# Altium footprint library Diodes.PcbLib: 38 footprints (part 2 of 3)
Each footprint in its own frame and in the unit in brackets; x right, y up, seen from the top. Pads: shape width x height; smd on the part's side, far side on the other; paste and mask are expansions set on the pad; w line width, h text height; cw(c..) or ccw(c..) is an arc to the next point about the centre after c.
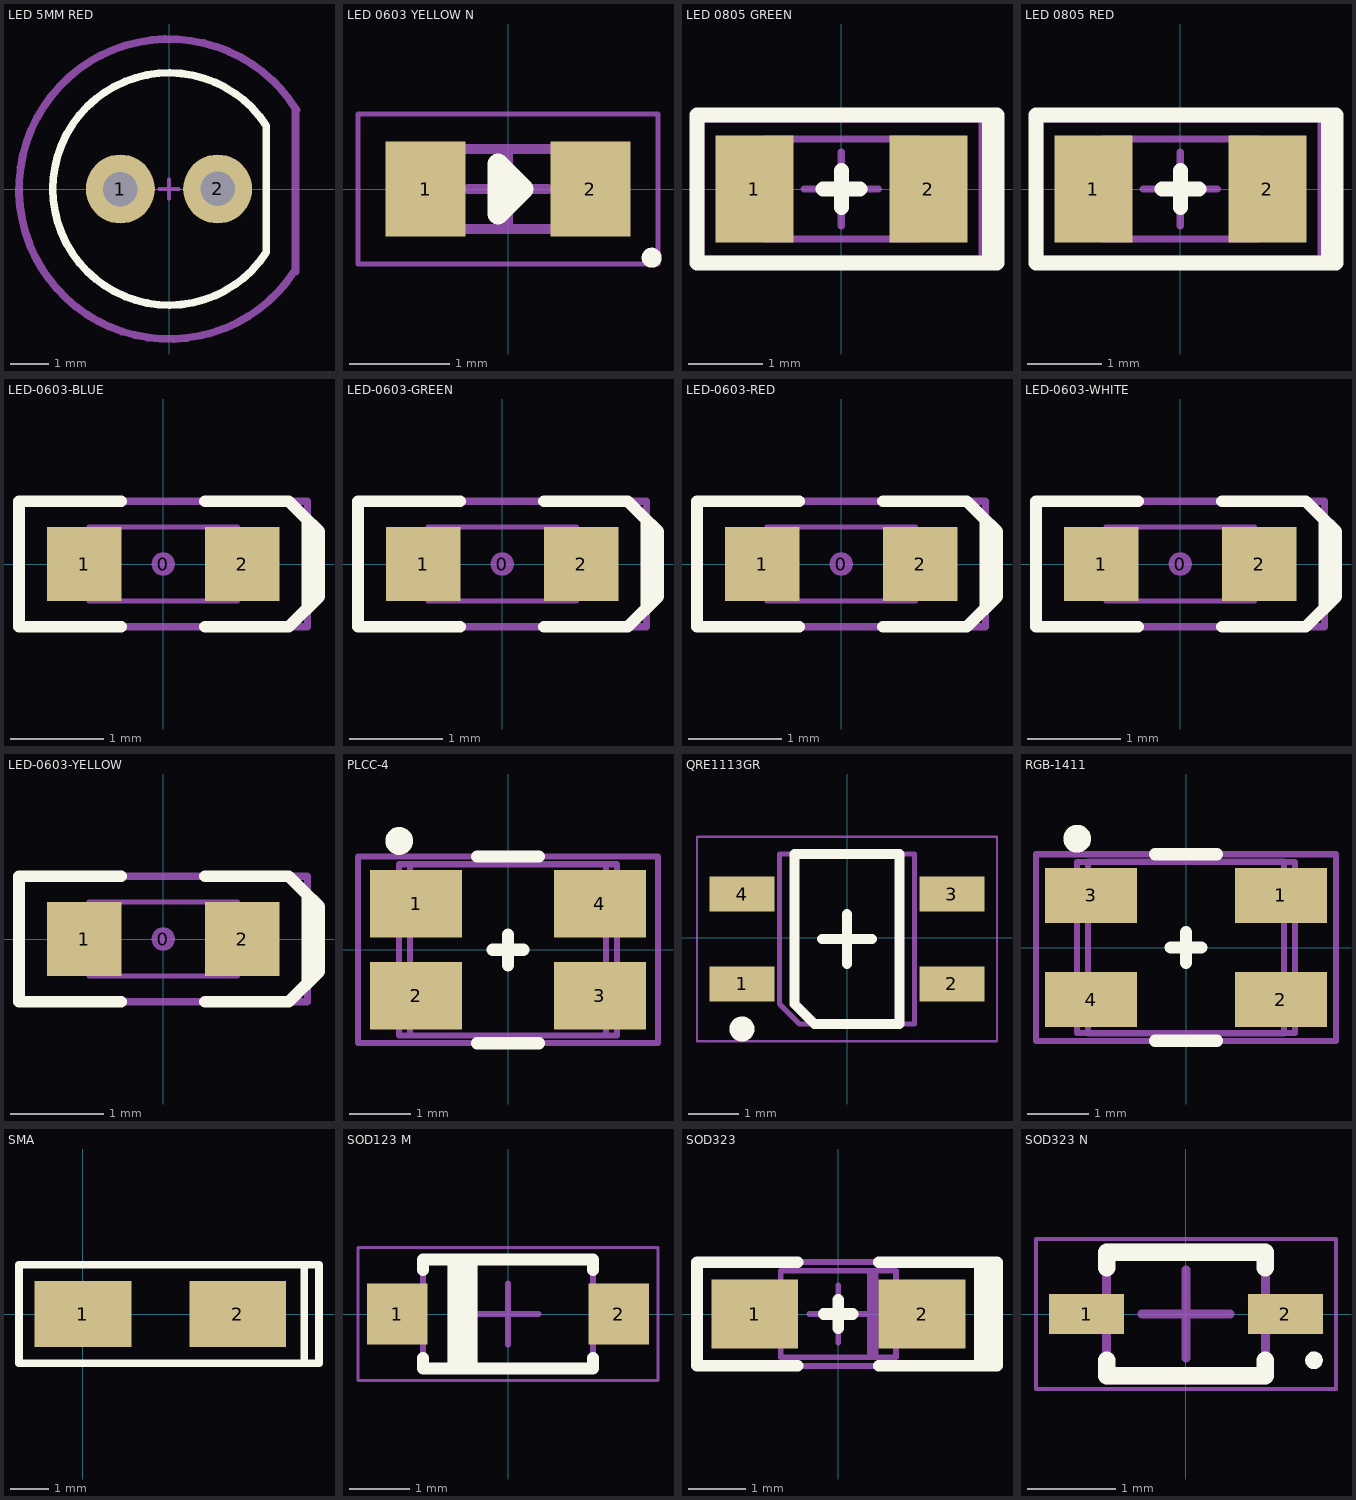
[diagram p1: the footprints below, top view; thin cyan lines are the x and y axes]

## LED 5MM RED [mm]
pads (2):
  round 1.8 hole 0.9: 1(-1.27,0) 2(1.27,0)
Top Overlay:
  lines w0.2: 2.54,-1.651 cw(c0,0) 2.54,1.651 2.54,-1.651
Mechanical 15:
  lines w0.1: -0.254,0 0.254,0 ; 0,-0.254 0,0.254
  lines w0.2: 3.275,-2.141 cw(c0,0) 3.333,2.051 ; 3.302,-2.159 3.302,2.032
Mechanical 29:
  text "K" at 0.635,-1.524 h0.5
  text "A" at -1.143,-1.524 h0.5
  text ".Designator" at -2.159,2.794 h0.5
3D body "ALSRobot-LED Red 5mm.STEP": height 9.31, standoff -5.49, extent -2.98,-3.01 2.44,3.01

## LED 0603 YELLOW N [mm] "Chip Diode, 2-Leads, Body 1,60x0,80mm, IPC Medium Density"
height 0.6
pads (2):
  rect 0.8x0.95 smd: 1(-0.825,0) 2(0.825,0)
Top Overlay:
  circle w0.1: c1.437,-0.687 r0.05
  lines w0.21: -0.1,-0.25 -0.1,0.25 0.15,0 -0.1,-0.25
Mechanical 13:
  lines w0.1: -0.8,-0.4 -0.8,0.4 0.8,0.4 0.8,-0.4 -0.8,-0.4
Mechanical 15:
  lines w0.05: -1.5,-0.75 -1.5,0.75 1.5,0.75 1.5,-0.75 -1.5,-0.75
  lines w0.1: -0.4,0 0.4,0 ; 0,-0.4 0,0.4
Mechanical 29:
  text ".Designator" at 0,0 h1
3D body "LED 0603 YELLOW.STEP": height 0.82, standoff 0.02, extent -0.8,-0.4 0.8,0.4

## LED 0805 GREEN [mm] "LED 0805 GREEN"
height 1
pads (2):
  rect 1.05x1.45 smd: 1(-1.175,0) 2(1.175,0)
Top Overlay:
  rectangle: 1.9,-1 2.1,1
  lines w0.2: -0.25,0 0.25,0 ; 0,-0.25 0,0.25 ; -1.95,-1 -1.95,1 2.1,1 2.1,-1 -1.95,-1
Mechanical 13:
  lines w0.1: -1.05,-0.675 1.05,-0.675 1.05,0.675 -1.05,0.675 -1.05,-0.675
Mechanical 15:
  lines w0.1: -0.5,0 0.5,0 ; 0,-0.5 0,0.5 ; -1.9,-0.95 1.9,-0.95 1.9,0.95 -1.9,0.95 -1.9,-0.95
Mechanical 29:
  text ".Designator" at 0,0 h1
3D body "LED0805_GREEN.STEP": height 0.9, standoff -0.01, extent -1.05,-0.675 1.05,0.675

## LED 0805 RED [mm] "LED 0805 GREEN"
height 1
pads (2):
  rect 1.05x1.45 smd: 1(-1.175,0) 2(1.175,0)
Top Overlay:
  rectangle: 1.9,-1 2.1,1
  lines w0.2: -0.25,0 0.25,0 ; 0,-0.25 0,0.25 ; -1.95,-1 -1.95,1 2.1,1 2.1,-1 -1.95,-1
Mechanical 13:
  lines w0.1: -1.05,-0.675 1.05,-0.675 1.05,0.675 -1.05,0.675 -1.05,-0.675
Mechanical 15:
  lines w0.1: -0.5,0 0.5,0 ; 0,-0.5 0,0.5 ; -1.9,-0.95 1.9,-0.95 1.9,0.95 -1.9,0.95 -1.9,-0.95
Mechanical 29:
  text ".Designator" at 0,0 h1
3D body "LED0805_RED.STEP": height 0.9, standoff -0.01, extent -1.05,-0.675 1.05,0.675

## LED-0603-BLUE [mm]
height 0.8
pads (3):
  round 0.254 on Mech15: 0(0,0)
  rect 0.8x0.8 smd: 1(-0.85,0) 2(0.85,0)
Top Overlay:
  lines w0.127: -0.45,-0.675 -1.55,-0.675 -1.55,0.675 -0.45,0.675 ; 0.45,-0.675 1.35,-0.675 1.55,-0.475 1.55,0.475 1.35,0.675 0.45,0.675 ; 1.5,0.525 1.675,0.35 1.675,-0.35 1.525,-0.5
Mechanical 13:
  lines w0.05: -0.6,-0.4 -0.6,0.399 0.6,0.4 0.6,-0.4 -0.6,-0.399 ; -0.505,-0.398 -0.505,0.398 ; -0.5,-0.4 -0.8,-0.4 -0.8,0.4 -0.5,0.4 ; 0.5,-0.4 0.8,-0.4 0.8,0.4 0.5,0.4 ; 0.505,-0.398 0.505,0.398 ; -0.599,-0.398 0.599,-0.398 0.599,0.398 -0.599,0.398 -0.599,-0.398
Mechanical 15:
  lines w0.076: -1.55,-0.675 1.55,-0.675 1.55,0.675 -1.55,0.675 -1.55,-0.675
3D body "LED 0603 APT1608 BLUE.STEP": height 0.75, standoff 0, extent -0.8,-0.4 0.8,0.4

## LED-0603-GREEN [mm]
height 0.8
pads (3):
  round 0.254 on Mech15: 0(0,0)
  rect 0.8x0.8 smd: 1(-0.85,0) 2(0.85,0)
Top Overlay:
  lines w0.127: -0.45,-0.675 -1.55,-0.675 -1.55,0.675 -0.45,0.675 ; 0.45,-0.675 1.35,-0.675 1.55,-0.475 1.55,0.475 1.35,0.675 0.45,0.675 ; 1.5,0.525 1.675,0.35 1.675,-0.35 1.525,-0.5
Mechanical 13:
  lines w0.05: -0.6,-0.4 -0.6,0.399 0.6,0.4 0.6,-0.4 -0.6,-0.399 ; -0.505,-0.398 -0.505,0.398 ; -0.5,-0.4 -0.8,-0.4 -0.8,0.4 -0.5,0.4 ; 0.5,-0.4 0.8,-0.4 0.8,0.4 0.5,0.4 ; 0.505,-0.398 0.505,0.398 ; -0.599,-0.398 0.599,-0.398 0.599,0.398 -0.599,0.398 -0.599,-0.398
Mechanical 15:
  lines w0.076: -1.55,-0.675 -1.55,0.675 1.55,0.675 1.55,-0.675 -1.55,-0.675
3D body "LED 0603 APT1608 GREEN.STEP": height 0.75, standoff 0, extent -0.8,-0.4 0.8,0.4

## LED-0603-RED [mm]
height 0.8
pads (3):
  round 0.254 on Mech15: 0(0,0)
  rect 0.8x0.8 smd: 1(-0.85,0) 2(0.85,0)
Top Overlay:
  lines w0.127: -0.45,-0.675 -1.55,-0.675 -1.55,0.675 -0.45,0.675 ; 0.45,-0.675 1.35,-0.675 1.55,-0.475 1.55,0.475 1.35,0.675 0.45,0.675 ; 1.5,0.525 1.675,0.35 1.675,-0.35 1.525,-0.5
Mechanical 13:
  lines w0.05: -0.6,-0.4 -0.6,0.399 0.6,0.4 0.6,-0.4 -0.6,-0.399 ; -0.505,-0.398 -0.505,0.398 ; -0.5,-0.4 -0.8,-0.4 -0.8,0.4 -0.5,0.4 ; 0.5,-0.4 0.8,-0.4 0.8,0.4 0.5,0.4 ; 0.505,-0.398 0.505,0.398 ; -0.599,-0.398 -0.599,0.398 0.599,0.398 0.599,-0.398 -0.599,-0.398
Mechanical 15:
  lines w0.076: -1.55,-0.675 1.55,-0.675 1.55,0.675 -1.55,0.675 -1.55,-0.675
3D body "LED 0603 APT1608 RED.STEP": height 0.75, standoff 0, extent -0.8,-0.4 0.8,0.4

## LED-0603-WHITE [mm]
height 0.8
pads (3):
  round 0.254 on Mech15: 0(0,0)
  rect 0.8x0.8 smd: 1(-0.85,0) 2(0.85,0)
Top Overlay:
  lines w0.127: -0.45,-0.675 -1.55,-0.675 -1.55,0.675 -0.45,0.675 ; 0.45,-0.675 1.35,-0.675 1.55,-0.475 1.55,0.475 1.35,0.675 0.45,0.675 ; 1.5,0.525 1.675,0.35 1.675,-0.35 1.525,-0.5
Mechanical 13:
  lines w0.05: -0.6,-0.4 -0.6,0.399 0.6,0.4 0.6,-0.4 -0.6,-0.399 ; -0.505,-0.398 -0.505,0.398 ; -0.5,-0.4 -0.8,-0.4 -0.8,0.4 -0.5,0.4 ; 0.5,-0.4 0.8,-0.4 0.8,0.4 0.5,0.4 ; 0.505,-0.398 0.505,0.398 ; -0.599,-0.398 0.599,-0.398 0.599,0.398 -0.599,0.398 -0.599,-0.398
Mechanical 15:
  lines w0.076: -1.55,-0.675 -1.55,0.675 1.55,0.675 1.55,-0.675 -1.55,-0.675
3D body "LED 0603 APT1608 WHITE.STEP": height 0.75, standoff 0, extent -0.8,-0.4 0.8,0.4

## LED-0603-YELLOW [mm]
height 0.8
pads (3):
  round 0.254 on Mech15: 0(0,0)
  rect 0.8x0.8 smd: 1(-0.85,0) 2(0.85,0)
Top Overlay:
  lines w0.127: -0.45,-0.675 -1.55,-0.675 -1.55,0.675 -0.45,0.675 ; 0.45,-0.675 1.35,-0.675 1.55,-0.475 1.55,0.475 1.35,0.675 0.45,0.675 ; 1.5,0.525 1.675,0.35 1.675,-0.35 1.525,-0.5
Mechanical 13:
  lines w0.05: -0.6,-0.4 -0.6,0.399 0.6,0.4 0.6,-0.4 -0.6,-0.399 ; -0.505,-0.398 -0.505,0.398 ; -0.5,-0.4 -0.8,-0.4 -0.8,0.4 -0.5,0.4 ; 0.5,-0.4 0.8,-0.4 0.8,0.4 0.5,0.4 ; 0.505,-0.398 0.505,0.398 ; -0.599,-0.398 0.599,-0.398 0.599,0.398 -0.599,0.398 -0.599,-0.398
Mechanical 15:
  lines w0.076: -1.55,-0.675 1.55,-0.675 1.55,0.675 -1.55,0.675 -1.55,-0.675
3D body "LED 0603 APT1608 YELLOW.STEP": height 0.75, standoff 0, extent -0.8,-0.4 0.8,0.4

## PLCC-4 [mm] "PLCC-4"
height 1.9
pads (4):
  rect 1.5x1.1 smd: 1(-1.5,0.75) 2(-1.5,-0.75) 3(1.5,-0.75) 4(1.5,0.75)
Top Overlay:
  circle w0.254: c-1.778,1.778 r0.1
  lines w0.2: -0.508,-1.524 0.508,-1.524 ; -0.508,1.524 0.508,1.524 ; -0.25,0 0.25,0 ; 0,-0.25 0,0.25
Mechanical 13:
  lines w0.1: -1.6,-1.4 -1.6,1.4 1.6,1.4 1.6,-1.4 -1.6,-1.4
Mechanical 15:
  lines w0.1: -0.254,0 0.254,0 ; 0,-0.254 0,0.254 ; -2.45,-1.524 -2.45,1.524 2.45,1.524 2.45,-1.524 0.508,-1.524 -2.45,-1.524
Mechanical 29:
  circle w0.1: c-1.27,0.762 r0.3
  lines w0.1: -1.778,-1.397 -1.778,1.397 1.778,1.397 1.778,-1.397 -1.778,-1.397
  text ".Designator" at 0,0 h1
3D body "User Library-HSMx-A2_A3-xx-xxxxx SMD LED PLCC-4.step": height 1.91, standoff 0.01, extent -1.75,-1.4 1.75,1.4

## QRE1113GR [mm]
height 1.7
pads (4):
  rect 1.3x0.7 smd: 1(-2.1,-0.925) 2(2.1,-0.925) 3(2.1,0.875) 4(-2.1,0.875)
Top Overlay:
  circle w0.25: c-2.1,-1.825 r0.125
  lines w0.2: -0.5,-0.025 0.5,-0.025 ; 0,-0.525 0,0.475 ; -1.05,-1.325 -1.05,1.675 1.05,1.675 1.05,-1.725 -0.65,-1.725 -1.05,-1.325
Mechanical 13:
  lines w0.1: -1.35,-1.325 -0.95,-1.725 1.35,-1.725 1.35,1.675 -1.35,1.675 -1.35,-1.325
Mechanical 15:
  lines w0.05: -3,-2.075 3,-2.075 3,2.025 -3,2.025 -3,-2.075
  lines w0.1: -0.5,-0.025 0.5,-0.025 ; 0,-0.525 0,0.475
Mechanical 29:
  text ".Designator" at 0,-0.025 h1
3D body "QRE1113.STEP": height 1.71, standoff -0.01, extent -2.35,-1.725 2.35,1.675

## RGB-1411 [mm] "1411"
height 1.9
pads (4):
  rect 1.5x0.9 smd: 1(1.55,0.85) 2(1.55,-0.85) 3(-1.55,0.85) 4(-1.55,-0.85)
Top Overlay:
  circle w0.254: c-1.778,1.778 r0.1
  lines w0.2: -0.508,-1.524 0.508,-1.524 ; -0.508,1.524 0.508,1.524 ; -0.25,0 0.25,0 ; 0,-0.25 0,0.25
Mechanical 13:
  lines w0.1: -1.6,-1.4 1.6,-1.4 1.6,1.4 -1.6,1.4 -1.6,-1.4
Mechanical 15:
  lines w0.1: -0.254,0 0.254,0 ; 0,-0.254 0,0.254 ; -2.45,-1.524 0.508,-1.524 2.45,-1.524 2.45,1.524 -2.45,1.524 -2.45,-1.524
Mechanical 29:
  circle w0.1: c-1.27,0.762 r0.3
  lines w0.1: -1.778,-1.397 1.778,-1.397 1.778,1.397 -1.778,1.397 -1.778,-1.397
  text ".Designator" at 0,0 h1
3D body "User Library-HSMx-A2_A3-xx-xxxxx SMD LED PLCC-4.step": height 1.91, standoff 0.01, extent -1.75,-1.4 1.75,1.4

## SMA [mm]
pads (2):
  rect 2.5x1.7 smd: 1(0,0) 2(4,0)
Top Overlay:
  lines w0.2: 5.715,-1.27 5.715,1.27 ; 5.715,-1.27 -1.651,-1.27 -1.651,1.27 5.715,1.27 ; 5.715,-1.27 6.096,-1.27 6.096,1.27 5.715,1.27
3D body "User Library-DO-214AC SMA.step": height 2.42, standoff 0.02, extent -0.568,-1.33 4.632,1.27

## SOD123 M [mm] "SODFL, 2-Leads, Body 1,60x3,75mm, IPC Low Density"
height 1.35
pads (2):
  rect 1x1 smd: 1(-1.825,0) 2(1.825,0)
Top Overlay:
  rectangle: -1,-0.9 -0.5,0.9
  lines w0.2: -1.4,-0.725 -1.4,-0.9 1.4,-0.9 1.4,-0.725 ; -1.4,0.725 -1.4,0.9 1.4,0.9 1.4,0.725
Mechanical 13:
  rectangle: -1,-0.9 -0.5,0.9
  lines w0.1: -1.4,-0.9 1.4,-0.9 1.4,0.9 -1.4,0.9 -1.4,-0.9
Mechanical 15:
  lines w0.05: -2.475,-1.1 2.475,-1.1 2.475,1.1 -2.475,1.1 -2.475,-1.1
  lines w0.1: -0.5,0 0.5,0 ; 0,-0.5 0,0.5
Mechanical 29:
  text ".Designator" at 0,0 h2
3D body "CircuitWorks-SOD123.step": height 1.27, standoff 0, extent -1.85,-0.8 1.85,0.8

## SOD323 [mm] "SOD323"
height 1
pads (2):
  rect 1.5x1.2 smd: 1(-1.45,0) 2(1.45,0)
Top Overlay:
  rectangle: 2.45,-0.9 2.75,0.9
  lines w0.2: -0.7,-0.9 -2.45,-0.9 -2.45,0.9 -0.7,0.9 ; -0.25,0 0.25,0 ; 0,-0.25 0,0.25 ; 0.7,-0.9 2.45,-0.9 ; 0.7,0.9 2.45,0.9 ; 2.45,-0.9 2.75,-0.9 2.75,0.9 2.45,0.9 ; 2.45,-0.9 2.45,0.9
Mechanical 13:
  rectangle: 0.5,-0.75 0.7,0.75
  lines w0.1: -1,-0.75 1,-0.75 1,0.75 -1,0.75 -1,-0.75
Mechanical 15:
  lines w0.1: -0.5,0 0.5,0 ; 0,-0.5 0,0.5 ; -2.4,-0.9 2.4,-0.9 2.4,0.9 -2.4,0.9 -2.4,-0.9
Mechanical 29:
  text ".Designator" at 0,0 h1
3D body "SOD-323.STEP": height 1.13, standoff -0.01, extent -1.43,-0.75 1.43,0.75

## SOD323 N [mm] "SODFL, 2-Leads, Body 1,25x2,50mm, IPC Medium Density"
height 1.1
pads (2):
  rect 0.85x0.45 smd: 1(-1.125,0) 2(1.125,0)
Top Overlay:
  circle w0.1: c1.45,-0.525 r0.05
  lines w0.2: -0.9,-0.525 -0.9,-0.7 0.9,-0.7 0.9,-0.525 ; -0.9,0.525 -0.9,0.7 0.9,0.7 0.9,0.525
Mechanical 13:
  lines w0.1: -0.9,-0.75 -0.9,0.75 0.9,0.75 0.9,-0.75 -0.9,-0.75
Mechanical 15:
  lines w0.05: -1.7,-0.85 -1.7,0.85 1.7,0.85 1.7,-0.85 -1.7,-0.85
  lines w0.1: -0.5,0 0.5,0 ; 0,-0.5 0,0.5
Mechanical 29:
  text ".Designator" at 0,0 h1
3D body "SOD323.STEP": height 1.13, standoff -0.01, extent -1.43,-0.75 1.43,0.75